# EAGLE library part DEBUG_CON (library range_cape)
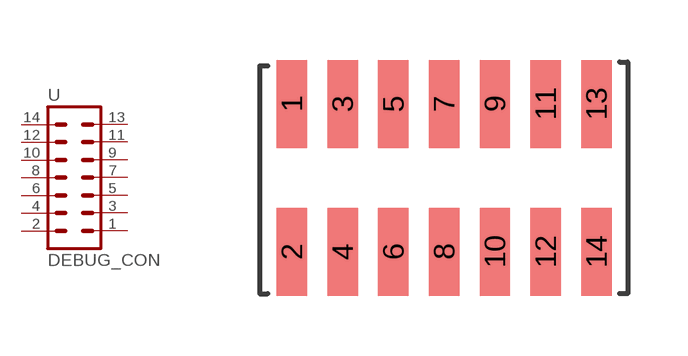
[diagram p0: symbol with the pads of DEBUG_SM; footprint DEBUG_SM]

Designator prefix -

## DEBUG_CON  [DEBUG_SM]
1  1  pas
2  2  pas
3  3  pas
4  4  pas
5  5  pas
6  6  pas
7  7  pas
8  8  pas
9  9  pas
10  10  pas
11  11  pas
12  12  pas
13  13  pas
14  14  pas

## Footprint DEBUG_SM (pad centres in mm)
smd 0.76 x 2.2: 1 0,1.85; 2 0,-1.85; 3 1.27,1.85; 4 1.27,-1.85; 5 2.54,1.85; 6 2.54,-1.85; 7 3.81,1.85; 8 3.81,-1.85; 9 5.08,1.85; 10 5.08,-1.85; 11 6.35,1.85; 12 6.35,-1.85; 13 7.62,1.85; 14 7.62,-1.85